# EAGLE library part TFDU4300 (library dviid)
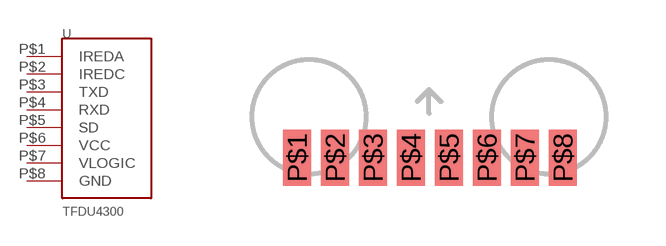
[diagram p3: symbol with the pads of IR_TFDU4300_FOOT; footprint IR_TFDU4300_FOOT]

Designator prefix -

## TFDU4300  [IR_TFDU4300_FOOT]
P$1  IREDA
P$2  IREDC
P$3  TXD
P$4  RXD
P$5  SD
P$6  VCC
P$7  VLOGIC
P$8  GND

## Footprint IR_TFDU4300_FOOT (pad centres in mm)
smd 0.7 x 1.4: P$1 -3.3,0.8; P$2 -2.35,0.8; P$3 -1.4,0.8; P$4 -0.45,0.8; P$5 0.5,0.8; P$6 1.45,0.8; P$7 2.4,0.8; P$8 3.35,0.8